# EAGLE library part BGM111 (library Components)
Bluetooth Module Silicon Labs BGM111 Integrated ARM Cortex M4, 32kB RAM, 256kB Flash Mouser <https://www.mouser.com/ProductDetail/BGM111E256V2> Silicon Labs <https://www.silabs.com/products/wireless/bluetooth/bluetooth-low-energy-modules/bgm111-bluetooth-low-energy-module>
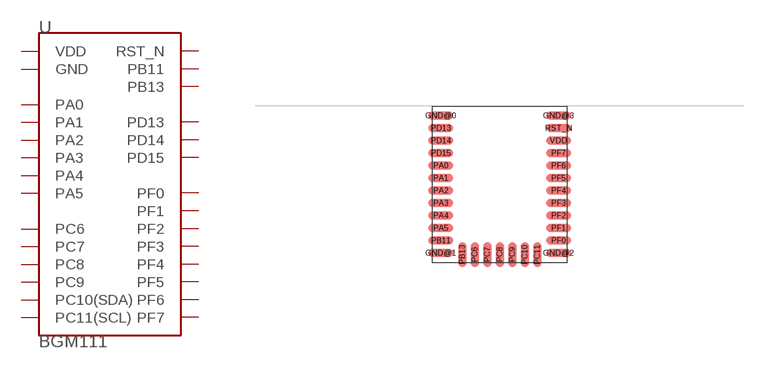
[diagram p0: symbol with the pads of BGM111; footprint BGM111]

Designator prefix -

## BGM111 (VALUE: BGM111)  [BGM111]
GND@0  GND  pwr
GND@1  GND  pwr
GND@2  GND  pwr
GND@3  GND  pwr
PA0  PA0
PA1  PA1
PA2  PA2
PA3  PA3
PA4  PA4
PA5  PA5
PB11  PB11
PB13  PB13
PC6  PC6
PC7  PC7
PC8  PC8
PC9  PC9
PC10  PC10(SDA)
PC11  PC11(SCL)
PD13  PD13
PD14  PD14
PD15  PD15
PF0  PF0
PF1  PF1
PF2  PF2
PF3  PF3
PF4  PF4
PF5  PF5
PF6  PF6
PF7  PF7
RST_N  RST_N
VDD  VDD  pwr

## Footprint BGM111 (pad centres in mm)
smd 2.4 x 0.8: GND@0 -5.65,-0.94; GND@1 -5.65,-14.14; GND@2 5.65,-14.14; GND@3 5.65,-0.94; PA0 -5.65,-5.74; PA1 -5.65,-6.94; PA2 -5.65,-8.14; PA3 -5.65,-9.34; PA4 -5.65,-10.54; PA5 -5.65,-11.74; PB11 -5.65,-12.94; PD13 -5.65,-2.14; PD14 -5.65,-3.34; PD15 -5.65,-4.54; PF0 5.65,-12.94; PF1 5.65,-11.74; PF2 5.65,-10.54; PF3 5.65,-9.34; PF4 5.65,-8.14; PF5 5.65,-6.94; PF6 5.65,-5.74; PF7 5.65,-4.54; RST_N 5.65,-2.14; VDD 5.65,-3.34
smd 0.8 x 2.4: PB13 -3.58,-14.28; PC6 -2.38,-14.28; PC7 -1.18,-14.28; PC8 0.02,-14.28; PC9 1.22,-14.28; PC10 2.42,-14.28; PC11 3.62,-14.28